# Altium schematic symbol library SDP21_Symbols.SchLib: 6 symbols
Pins are listed as number, name and electrical type; pins without a type are passive.

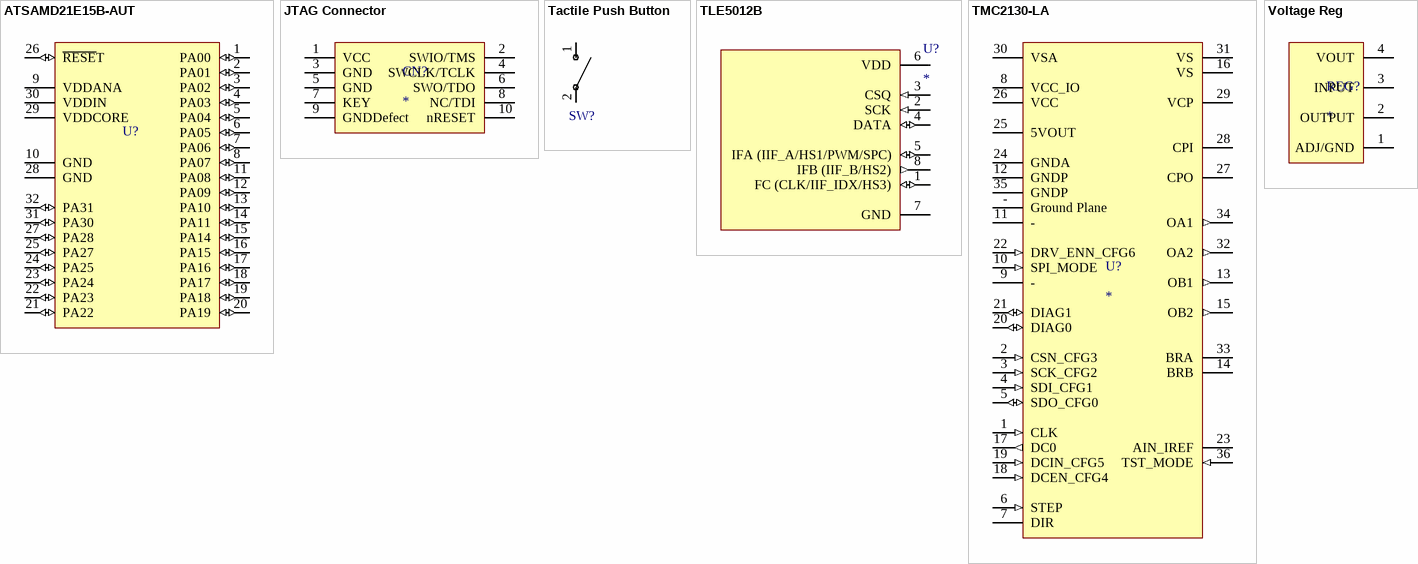
[diagram p0: symbols ATSAMD21E15B-AUT to Voltage Reg]

## ATSAMD21E15B-AUT
designator U?  (value not drawn)
IC MCU 32BIT 32KB FLASH 32TQFP
footprint TQFP-32
pins: 1 PA00 (io), 2 PA01 (io), 3 PA02 (io) "Analog", 4 PA03 (io) "Analog", 5 PA04 (io) "Analog", 6 PA05 (io) "Analog", 7 PA06 (io) "Analog", 8 PA07 (io) "Analog", 9 VDDANA (power), 10 GND (power), 11 PA08 (io) "Analog", 12 PA09 (io) "Analog", 13 PA10 (io) "Analog", 14 PA11 (io) "Analog", 15 PA14 (io), 16 PA15 (io), 17 PA16 (io), 18 PA17 (io), 19 PA18 (io), 20 PA19 (io), 21 PA22 (io), 22 PA23 (io), 23 PA24 (io), 24 PA25 (io), 25 PA27 (io), 26 ~{RESE}T (io), 27 PA28 (io), 28 GND (power), 29 VDDCORE (power), 30 VDDIN (power), 31 PA30 (io) "Analog", 32 PA31 (io) "Analog"

## JTAG Connector
designator CN?
footprint Header 5x2 - 50mil
pins: 1 VCC (power), 2 SWIO/TMS (power), 3 GND (power), 4 SWCLK/TCLK (power), 5 GND (power), 6 SWO/TDO (power), 7 KEY (power), 8 NC/TDI (power), 9 GNDDefect (power), 10 nRESET (power)

## Tactile Push Button
designator SW?, comment PTS525SM15SMTR2 LFS  (value not drawn)
SWITCH TACTILE SPST-NO 0.02A 15V
footprint PTS525 SM08 SMTR2 LFS
pins: 1, 2

## TLE5012B
designator U?
TLE5012B GMR-Based Angle Sensor PG-DSO-8
footprint PG-DSO-8
footprint Model Name (Footprint not found)
pins: 1 FC (CLK/IIF_IDX/HS3) (io) "Interface C: External Clock/IIF Index/Hall Switch Signal 3)", 2 SCK (in) "SSC Clock", 3 CSQ (in) "SSC Chip Select", 4 DATA (io) "SSC Data", 5 IFA (IIF_A/HS1/PWM/SPC) (io) "Interface A: IIF Phase A/Hall Switch Signal 1/PWM/SPC output (input for SPC trigger only)", 6 VDD (power) "Supply voltage", 7 GND (power) "Ground", 8 IFB (IIF_B/HS2) (out) "Interface B: IIF Phase B/Hall Switch Signal 2"

## TMC2130-LA
designator U?
TMC2130-LA Trinamic Driver QFN-36
footprint QFN-36
pins: 1 CLK (in) "CLK input. Tie to GND using short  wire for internal  clock or supply external clock.", 2 CSN_CFG3 (in) "SPI chip select input (negative active) (SPI_MODE=1) orConfiguration input (SPI_MODE=0) (tristate detection).", 3 SCK_CFG2 (in) "SPI serialclock input(SPI_MODE=1) orConfiguration input (SPI_MODE=0) (tristate detection)", 4 SDI_CFG1 (in) "SPI data input (SPI_MODE=1) or Configuration input (SPI_MODE=0) (tristate detection).", 5 SDO_CFG0 (io) "SPI data output (tristate) (SPI_MODE=1) or Configuration input (SPI_MODE=0) (tristate detection).", 6 STEP (in) "STEP input", 7 DIR, 8 VCC_IO (power) "3.3V to 5V IO supply voltage for all digital pins.", 9 - (hiz) "Do  not  connect.  Leave  opento  ensure  highest  distance for high voltage pins in TQFP package!", 10 SPI_MODE (in) "Mode selection input with pullup resistor. When tied low, the  chip  is  in  standalone  mode  and  pins  have  their  CFG functions.  When  tied  high,  the  SPI  interface  is  availablefor control. Integrated pull-up resistor.", 11 - "Unused  pin,  connect  to  GND  for  compatibility  to  future versions.", 12 GNDP (power) "Power GND. Connect to GND plane near pin.", 13 OB1 (out) "Motor coil B output 1", 14 BRB "Sense  resistor  connection  for  coil  B.  Place  sense  resistor to  GND  near  pin.  An  additional  100nF  capacitor  to  GND (GND plane) is recommended for best performance.", 15 OB2 (out) "Motor coil B output 2", 16 VS (power) "Motor  supply  voltage.  Provide  filtering  capacity  near  pin with short loop to nearest GNDP pin (respectively via GND plane).", 17 DC0 (out) "dcStep ready output", 18 DCEN_CFG4 (in) "dcStep enable input (SPI_MODE=1) -tie to GND for normal operation (no dcStep) orConfiguration input (SPI_MODE=0) (tristate detection).", 19 DCIN_CFG5 (in) "dcStep gating input for axis synchronization (SPI_MODE=1) orConfiguration input (SPI_MODE=0) (tristate detection).", 20 DIAG0 (io) "Diagnostics  output  DIAG0.  Use  external  pull-up  resistor with 47k or less in open drain mode.", 21 DIAG1 (io) "Diagnostics  output  DIAG1.  Use  external  pull-up  resistor with 47k or less in open drain mode.", 22 DRV_ENN_CFG6 (in) "Enable input (SPI_MODE=1) or configuration   /   Enable   input   (SPI_MODE=0)   (tristate detection).The power stage becomes switched off (all motor outputs floating) when this pin becomes driven to a high level.", 23 AIN_IREF "Analog  reference  voltage  for  current  scaling  (optional mode)  or  reference  current  for  use  of  internal  sense resistors", 24 GNDA (power) "Analog GND. Tie to GND plane.", 25 5VOUT (power) "Output  of  internal  5V  regulator.  Attach  2.2μF  or  larger ceramic   capacitor   to   GNDA   near   to   pin   for   best performance. May be used to supply VCC of chip.", 26 VCC (power) "5V  supply  input  for  digital  circuitry  within  chip  and chargepump. Attach 470nF capacitor to GND (GND plane). May  be  supplied  by  5VOUT.  A  2.2  or  3.3  Ohm  resistor  is recommended  for  decoupling  noise  from  5VOUT.  When using  an  external  supply,  make  sure,  that  VCC  comes  up before  or  in  parallel  to  5VOUT  or  VCC_IO,  whichever comes up later!", 27 CPO "Charge pump capacitor output.", 28 CPI "Charge pump capacitor input.Tie to CPO using 22nF  50V capacitor.", 29 VCP "Charge pump voltage.Tie to VS using 100nF capacitor.", 30 VSA (power) "Analog  supply  voltage  for  5V  regulator.  Normally  tied  to VS. Provide a 100nF filtering capacitor.", 31 VS (power) "Motor  supply  voltage.  Provide  filtering  capacity  near  pin with short loop to nearest GNDP pin (respectively via GND plane).", 32 OA2 (out) "Motor coil A output 2", 33 BRA "Sense  resistor  connection  for  coil  A.  Place  sense  resistor to  GND  near  pin.  An  additional  100nF  capacitor  to  GND (GND plane) is recommended for bestperformance.", 34 OA1 (out) "Motor coil A output 1", 35 GNDP (power) "Power GND. Connect to GND plane near pin.", 36 TST_MODE (in) "Test mode input. Tie to GND using short wire.", - Ground Plane

## Voltage Reg
designator REG?
footprint SOT223
pins: 1 ADJ/GND, 2 OUTPUT, 3 INPUT, 4 VOUT